# EAGLE library part TSW-108-02-S-S (library con-samtec)
THROUGH-HOLE .025" SQ POST HEADER Source: Samtec TSW.pdf
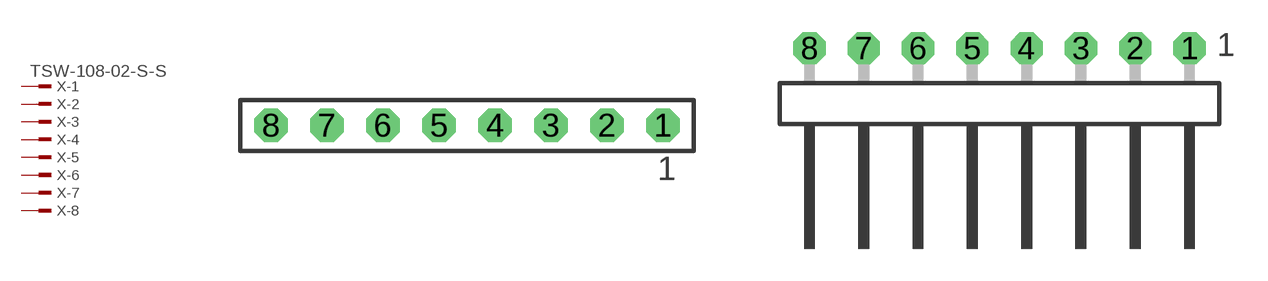
[diagram p238: symbol with the pads of TSW-108-02-S-S; footprints TSW-108-02-S-S, TSW-108-02-S-S-RA]

Designator prefix X; gates -1=MPINV -2=MPIN -3=MPIN -4=MPIN -5=MPIN -6=MPIN -7=MPIN -8=MPIN

## TSW-108-02-S-S (OC_FARNELL: unknown; OC_NEWARK: unknown)  [TSW-108-02-S-S]
1  -1:1  pas
2  -2:1  pas
3  -3:1  pas
4  -4:1  pas
5  -5:1  pas
6  -6:1  pas
7  -7:1  pas
8  -8:1  pas

## TSW-108-02-S-S-RA (OC_FARNELL: unknown; OC_NEWARK: unknown)  [TSW-108-02-S-S-RA]
Pads as for TSW-108-02-S-S

## Footprint TSW-108-02-S-S (pad centres in mm)
THROUGH-HOLE .025" SQ POST HEADER Source: Samtec TSW.pdf
drill 1 pad 1.5 octagon: 1 8.89,0; 2 6.35,0; 3 3.81,0; 4 1.27,0; 5 -1.27,0; 6 -3.81,0; 7 -6.35,0; 8 -8.89,0

## Footprint TSW-108-02-S-S-RA (pad centres in mm)
THROUGH-HOLE .025" SQ POST HEADER Source: Samtec TSW.pdf
drill 1 pad 1.5 octagon: 1 8.89,1.524; 2 6.35,1.524; 3 3.81,1.524; 4 1.27,1.524; 5 -1.27,1.524; 6 -3.81,1.524; 7 -6.35,1.524; 8 -8.89,1.524